# EAGLE library part TC358743XBG (library TC358743XBG)
Display Drivers & Controllers HDMI to CSI-2 bridge chip Source: Datasheet <https://toshiba.semicon-storage.com/info/docget.jsp?did=35655&prodName=TC358743XBG>
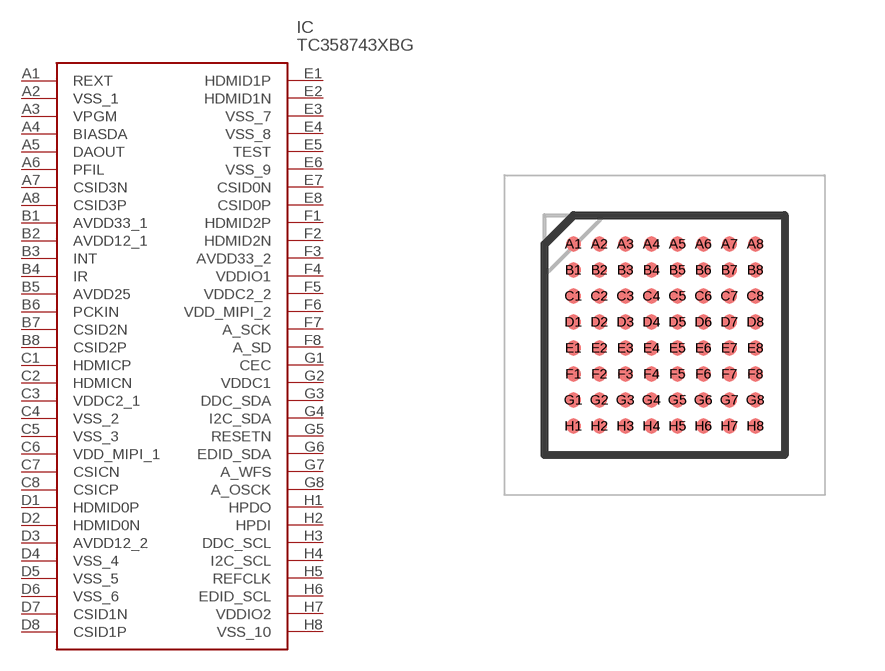
[diagram p0: symbol with the pads of BGA64C65P8X8_600X600X120; footprint BGA64C65P8X8_600X600X120]

Designator prefix IC

## TC358743XBG (Description: Display Drivers & Controllers HDMI to CSI-2 bridge chip; Height: 1.2mm; Manufacturer_Name: Toshiba; Manufacturer_Part_Number: TC358743XBG)  [BGA64C65P8X8_600X600X120]
A1  REXT
A2  VSS_1
A3  VPGM
A4  BIASDA
A5  DAOUT
A6  PFIL
A7  CSID3N
A8  CSID3P
B1  AVDD33_1
B2  AVDD12_1
B3  INT
B4  IR
B5  AVDD25
B6  PCKIN
B7  CSID2N
B8  CSID2P
C1  HDMICP
C2  HDMICN
C3  VDDC2_1
C4  VSS_2
C5  VSS_3
C6  VDD_MIPI_1
C7  CSICN
C8  CSICP
D1  HDMID0P
D2  HDMID0N
D3  AVDD12_2
D4  VSS_4
D5  VSS_5
D6  VSS_6
D7  CSID1N
D8  CSID1P
E1  HDMID1P
E2  HDMID1N
E3  VSS_7
E4  VSS_8
E5  TEST
E6  VSS_9
E7  CSID0N
E8  CSID0P
F1  HDMID2P
F2  HDMID2N
F3  AVDD33_2
F4  VDDIO1
F5  VDDC2_2
F6  VDD_MIPI_2
F7  A_SCK
F8  A_SD
G1  CEC
G2  VDDC1
G3  DDC_SDA
G4  I2C_SDA
G5  RESETN
G6  EDID_SDA
G7  A_WFS
G8  A_OSCK
H1  HPDO
H2  HPDI
H3  DDC_SCL
H4  I2C_SCL
H5  REFCLK
H6  EDID_SCL
H7  VDDIO2
H8  VSS_10

## Footprint BGA64C65P8X8_600X600X120 (pad centres in mm)
P-TFBGA64-0606-0.65-001
smd 0.37 x 0.37: A1 -2.275,2.275; A2 -1.625,2.275; A3 -0.975,2.275; A4 -0.325,2.275; A5 0.325,2.275; A6 0.975,2.275; A7 1.625,2.275; A8 2.275,2.275; B1 -2.275,1.625; B2 -1.625,1.625; B3 -0.975,1.625; B4 -0.325,1.625; B5 0.325,1.625; B6 0.975,1.625; B7 1.625,1.625; B8 2.275,1.625; C1 -2.275,0.975; C2 -1.625,0.975; C3 -0.975,0.975; C4 -0.325,0.975; C5 0.325,0.975; C6 0.975,0.975; C7 1.625,0.975; C8 2.275,0.975; D1 -2.275,0.325; D2 -1.625,0.325; D3 -0.975,0.325; D4 -0.325,0.325; D5 0.325,0.325; D6 0.975,0.325; D7 1.625,0.325; D8 2.275,0.325; E1 -2.275,-0.325; E2 -1.625,-0.325; E3 -0.975,-0.325; E4 -0.325,-0.325; E5 0.325,-0.325; E6 0.975,-0.325; E7 1.625,-0.325; E8 2.275,-0.325; F1 -2.275,-0.975; F2 -1.625,-0.975; F3 -0.975,-0.975; F4 -0.325,-0.975; F5 0.325,-0.975; F6 0.975,-0.975; F7 1.625,-0.975; F8 2.275,-0.975; G1 -2.275,-1.625; G2 -1.625,-1.625; G3 -0.975,-1.625; G4 -0.325,-1.625; G5 0.325,-1.625; G6 0.975,-1.625; G7 1.625,-1.625; G8 2.275,-1.625; H1 -2.275,-2.275; H2 -1.625,-2.275; H3 -0.975,-2.275; H4 -0.325,-2.275; H5 0.325,-2.275; H6 0.975,-2.275; H7 1.625,-2.275; H8 2.275,-2.275